# Altium schematic symbol library SamacSys.SchLib: 1311 symbols (part 13 of 14)
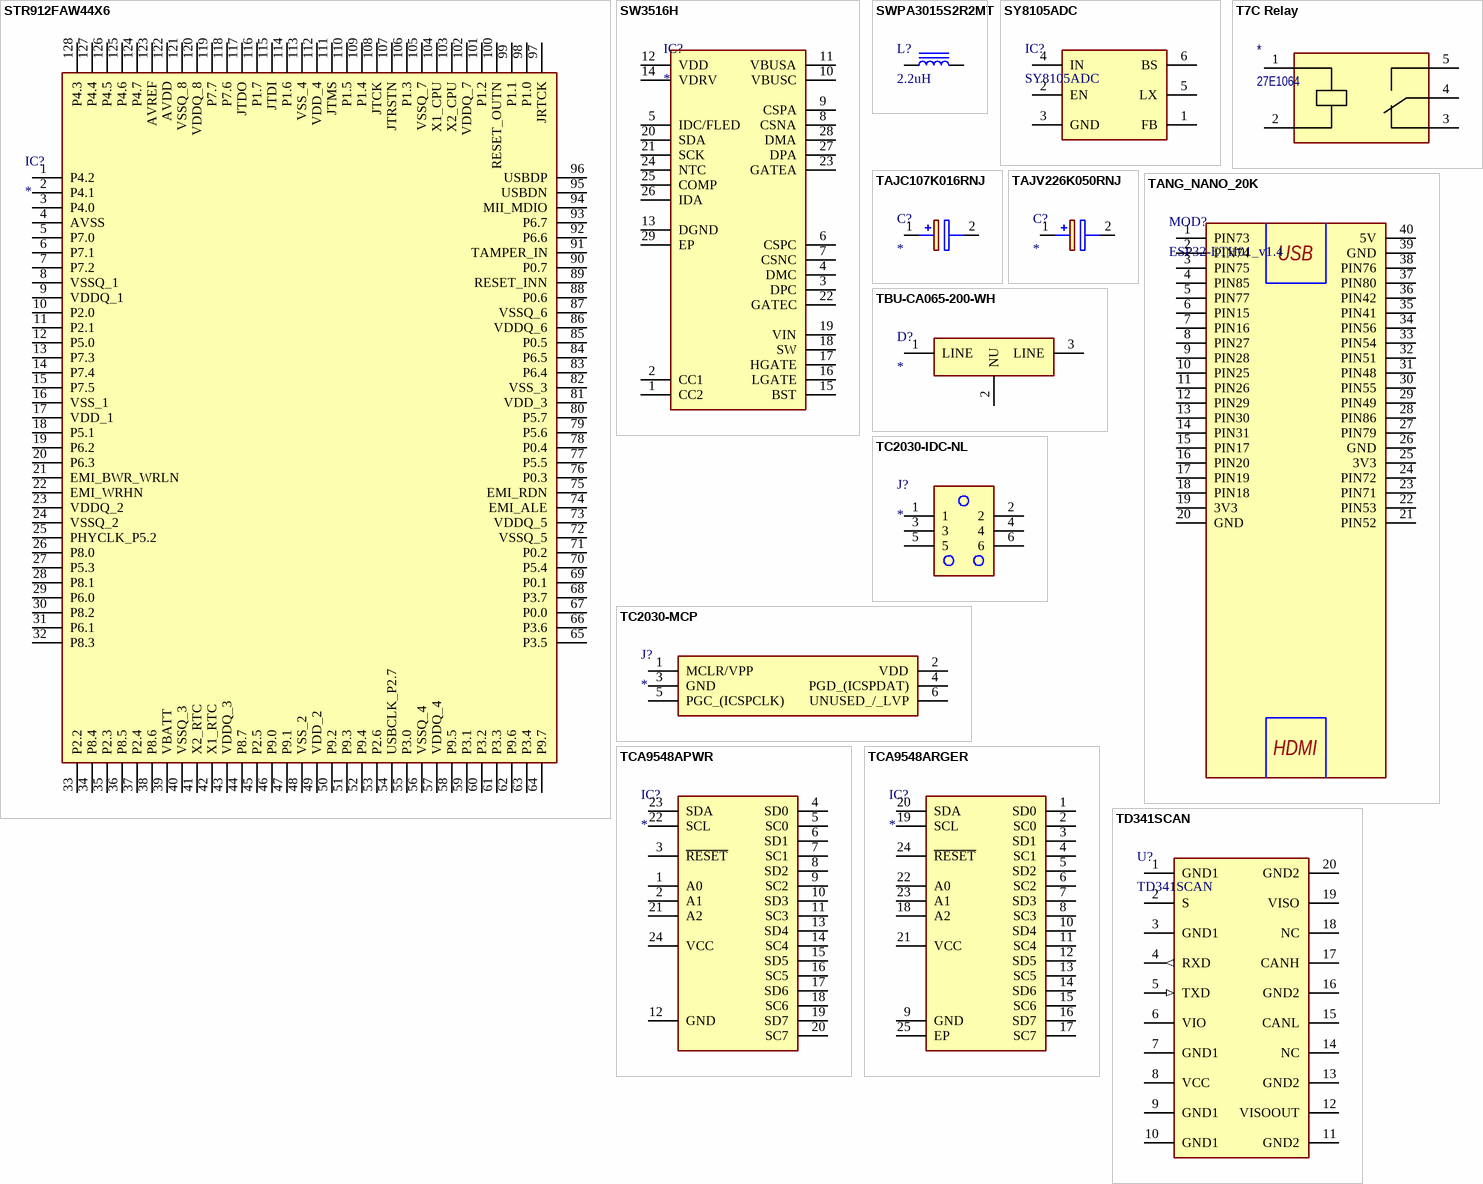
[diagram p62: symbols STR912FAW44X6 to TD341SCAN]

## TCA9548ARGER
designator IC?
Integrated Circuit; Manufacturer_Name: Texas Instruments; Manufacturer_Part_Number: TCA9548ARGER; Datasheet Link: http://www.ti.com/general/docs/lit/getliterature.tsp?genericPartNumber=TCA9548A&&fileType=pdf; Height: 1mm; Mouser Part Number: 595-TCA9548ARGER; Mouser Price/Stock: https://www.mouser.co.uk/ProductDetail/Texas-Instruments/TCA9548ARGER?qs=2I4pGxj2dxUewY0zSIpfWQ%3D%3D; Arrow Part Number: TCA9548ARGER; Arrow Price/Stock: https://www.arrow.com/en/products/tca9548arger/texas-instruments?region=nac
footprint QFN50P400X400X100-25N-D
pins: 1 SD0, 2 SC0, 3 SD1, 4 SC1, 5 SD2, 6 SC2, 7 SD3, 8 SC3, 9 GND, 10 SD4, 11 SC4, 12 SD5, 13 SC5, 14 SD6, 15 SC6, 16 SD7, 17 SC7, 18 A2, 19 SCL, 20 SDA, 21 VCC, 22 A0, 23 A1, 24 ~{RESET}, 25 EP

## TD341SCAN
designator U?
CAN transceiver, Isolated; Manufacturer: RUNIC; Part Number: RS2233YS16; Datasheet Link: https://static.chipdip.ru/lib/991/DOC019991430.pdf; Height: 1mm
footprint DFN20P1300X1030X90-20N
pins: 1 GND1, 2 S, 3 GND1, 4 RXD (out), 5 TXD (in), 6 VIO, 7 GND1, 8 VCC, 9 GND1, 10 GND1, 11 GND2, 12 VISOOUT, 13 GND2, 14 NC, 15 CANL, 16 GND2, 17 CANH, 18 NC, 19 VISO, 20 GND2

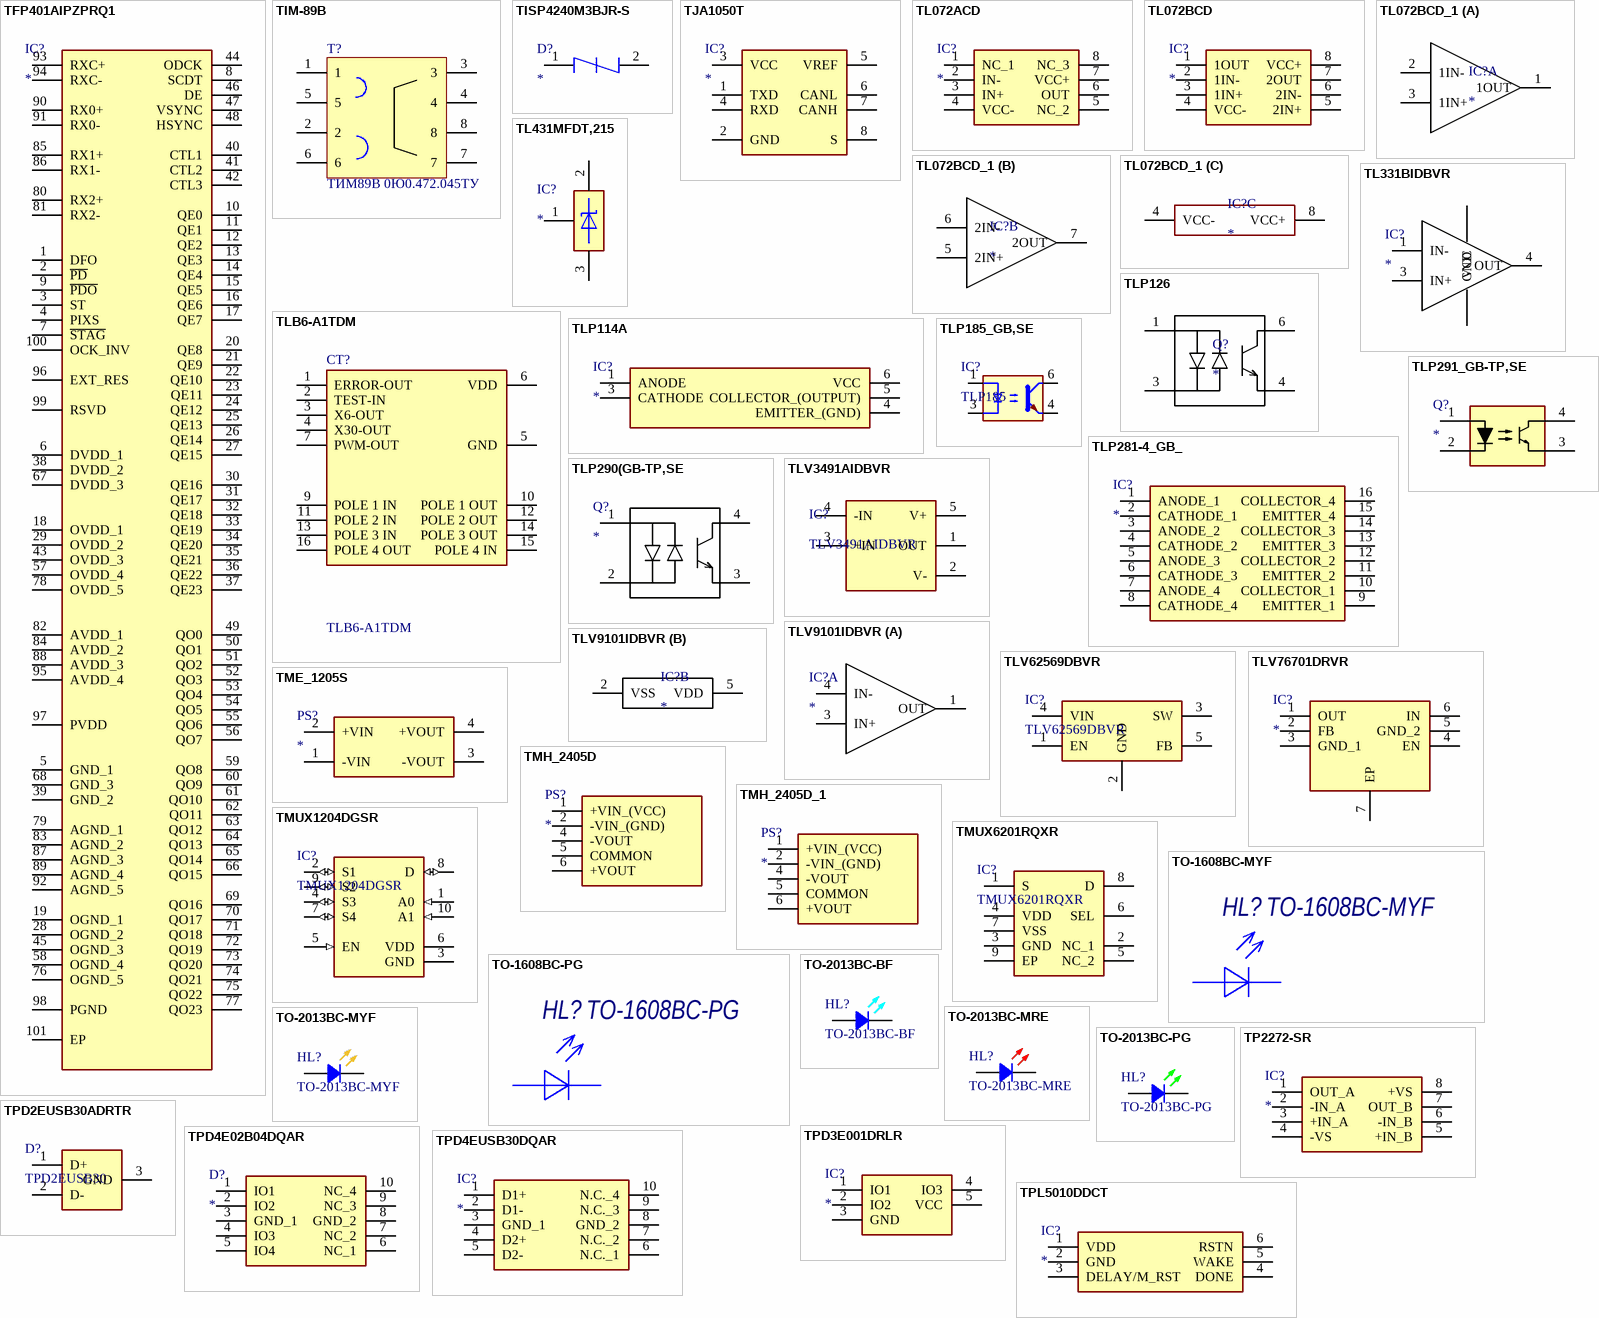
[diagram p46: symbols TFP401AIPZPRQ1 to TPL5010DDCT]

## TFP401AIPZPRQ1
designator IC?
Integrated Circuit; Manufacturer_Name: Texas Instruments; Manufacturer_Part_Number: TFP401AIPZPRQ1; Datasheet Link: http://www.ti.com/lit/ds/symlink/tfp401a-q1.pdf; Height: 1.2mm; Mouser Part Number: 595-TFP401AIPZPRQ1; Mouser Price/Stock: https://www.mouser.co.uk/ProductDetail/Texas-Instruments/TFP401AIPZPRQ1?qs=T1E5mKGHTGWTWhX4le8rpw%3D%3D; Arrow Part Number: TFP401AIPZPRQ1; Arrow Price/Stock: https://www.arrow.com/en/products/tfp401aipzprq1/texas-instruments?region=nac
footprint QFP50P1600X1600X120-101N
pins: 1 DFO, 2 ~{PD}, 3 ST, 4 PIXS, 5 GND_1, 6 DVDD_1, 7 ~{STAG}, 8 SCDT, 9 ~{PDO}, 10 QE0, 11 QE1, 12 QE2, 13 QE3, 14 QE4, 15 QE5, 16 QE6, 17 QE7, 18 OVDD_1, 19 OGND_1, 20 QE8, 21 QE9, 22 QE10, 23 QE11, 24 QE12, 25 QE13, 26 QE14, 27 QE15, 28 OGND_2, 29 OVDD_2, 30 QE16, 31 QE17, 32 QE18, 33 QE19, 34 QE20, 35 QE21, 36 QE22, 37 QE23, 38 DVDD_2, 39 GND_2, 40 CTL1, 41 CTL2, 42 CTL3, 43 OVDD_3, 44 ODCK, 45 OGND_3, 46 DE, 47 VSYNC, 48 HSYNC, 49 QO0, 50 QO1, 51 QO2, 52 QO3, 53 QO4, 54 QO5, 55 QO6, 56 QO7, 57 OVDD_4, 58 OGND_4, 59 QO8, 60 QO9, 61 QO10, 62 QO11, 63 QO12, 64 QO13, 65 QO14, 66 QO15, 67 DVDD_3, 68 GND_3, 69 QO16, 70 QO17, 71 QO18, 72 QO19, 73 QO20, 74 QO21, 75 QO22, 76 OGND_5, 77 QO23, 78 OVDD_5, 79 AGND_1, 80 RX2+, 81 RX2-, 82 AVDD_1, 83 AGND_2, 84 AVDD_2, 85 RX1+, 86 RX1-, 87 AGND_3, 88 AVDD_3, 89 AGND_4, 90 RX0+, 91 RX0-, 92 AGND_5, 93 RXC+, 94 RXC-, 95 AVDD_4, 96 EXT_RES, 97 PVDD, 98 PGND, 99 RSVD, 100 OCK_INV, 101 EP

## TIM-89B
designator T?, comment ТИМ89В 0Ю0.472.045ТУ
TRANS IMP
footprint TIM-89B
pins: 1, 2, 3, 4, 5, 6, 7, 8

## TISP4240M3BJR-S
designator D?
Thyristor; Manufacturer_Name: Bourns; Manufacturer_Part_Number: TISP4240M3BJR-S; Datasheet Link: http://html.alldatasheet.com/html-pdf/160733/BOURNS/TISP4240M3BJR-S/2984/13/TISP4240M3BJR-S.html; Height: 2.4mm; Mouser Part Number: 652-TISP4240M3BJR-S; Mouser Price/Stock: https://www.mouser.co.uk/ProductDetail/Bourns/TISP4240M3BJR-S?qs=0zoXPJiSMmNlDn5QEdP1vg%3D%3D; Arrow Part Number: TISP4240M3BJR-S; Arrow Price/Stock: https://www.arrow.com/en/products/tisp4240m3bjr-s/bourns?region=nac
footprint TISP4240M3BJRS
pins: 1, 2

## TJA1050T
designator IC?
Integrated Circuit; Manufacturer_Name: NXP; Manufacturer_Part_Number: TJA1050T; Datasheet Link: https://datasheet.datasheetarchive.com/originals/distributors/Datasheets-NXP/DSANXP010005907.pdf; Height: 1.75mm; Mouser Part Number: N/A; Mouser Price/Stock: https://www.mouser.co.uk/ProductDetail/NXP-Semiconductors/TJA1050T?qs=WhRErS6oET%252B5mtiFrt9ZMQ%3D%3D
footprint SOIC127P600X175-8N
pins: 1 TXD, 2 GND, 3 VCC, 4 RXD, 5 VREF, 6 CANL, 7 CANH, 8 S

## TL072ACD
designator IC?
Integrated Circuit; Manufacturer_Name: Texas Instruments; Manufacturer_Part_Number: TL072ACD; Datasheet Link: http://www.ti.com/lit/ds/symlink/tl071.pdf; Height: 1.75mm; Mouser Part Number: 595-TL072ACD; Mouser Price/Stock: https://www.mouser.co.uk/ProductDetail/Texas-Instruments/TL072ACD?qs=0OT4q4QBUTKvs4LhLdZF0Q%3D%3D; Arrow Part Number: TL072ACD; Arrow Price/Stock: https://www.arrow.com/en/products/tl072acd/texas-instruments
footprint SOIC127P600X175-8N
pins: 1 NC_1, 2 IN-, 3 IN+, 4 VCC-, 5 NC_2, 6 OUT, 7 VCC+, 8 NC_3

## TL072BCD
designator IC?
Integrated Circuit; Manufacturer_Name: Texas Instruments; Manufacturer_Part_Number: TL072BCD; Datasheet Link: http://www.ti.com/lit/ds/symlink/tl072b.pdf; Height: 1.75mm; Mouser Part Number: 595-TL072BCD; Mouser Price/Stock: https://www.mouser.com/Search/Refine.aspx?Keyword=595-TL072BCD; Arrow Part Number: TL072BCD; Arrow Price/Stock: https://www.arrow.com/en/products/tl072bcd/texas-instruments
footprint SOIC127P600X175-8N
pins: 1 1OUT, 2 1IN-, 3 1IN+, 4 VCC-, 5 2IN+, 6 2IN-, 7 2OUT, 8 VCC+

## TL072BCD_1
designator IC?
Integrated Circuit; Manufacturer_Name: Texas Instruments; Manufacturer_Part_Number: TL072BCD; Datasheet Link: http://www.ti.com/lit/ds/symlink/tl072b.pdf; Height: 1.75mm; Mouser Part Number: 595-TL072BCD; Mouser Price/Stock: https://www.mouser.com/Search/Refine.aspx?Keyword=595-TL072BCD; Arrow Part Number: TL072BCD; Arrow Price/Stock: https://www.arrow.com/en/products/tl072bcd/texas-instruments
footprint SOIC127P600X175-8N
part A pins: 1 1OUT, 2 1IN-, 3 1IN+
part B pins: 5 2IN+, 6 2IN-, 7 2OUT
part C pins: 4 VCC-, 8 VCC+

## TL331BIDBVR
designator IC?
Integrated Circuit; Manufacturer_Name: Texas Instruments; Manufacturer_Part_Number: TL331BIDBVR; Datasheet Link: https://www.ti.com/lit/gpn/TL331B; Height: 1.45mm; Mouser Part Number: 595-TL331BIDBVR; Mouser Price/Stock: https://www.mouser.co.uk/ProductDetail/Texas-Instruments/TL331BIDBVR?qs=hWgE7mdIu5RvWHRCZ8GTDQ%3D%3D; Arrow Part Number: TL331BIDBVR; Arrow Price/Stock: https://www.arrow.com/en/products/tl331bidbvr/texas-instruments?region=nac
footprint SOT95P280X145-5N
pins: 1 IN-, 2 GND, 3 IN+, 4 OUT, 5 VCC

## TL431MFDT,215
designator IC?
Integrated Circuit; Manufacturer_Name: Nexperia; Manufacturer_Part_Number: TL431MFDT,215; Datasheet Link: https://assets.nexperia.com/documents/data-sheet/TL431_FAM.pdf; Height: 1.1mm; Mouser Part Number: 771-TL431MFDT215; Mouser Price/Stock: https://www.mouser.co.uk/ProductDetail/Nexperia/TL431MFDT215?qs=A1cBxND5mHKvFzVl3lBdcQ%3D%3D; Arrow Part Number: TL431MFDT,215; Arrow Price/Stock: https://www.arrow.com/en/products/tl431mfdt215/nexperia?utm_currency=USD&region=nac
footprint SOT95P230X110-3N
pins: 1 REF, 2 K, 3 A

## TLB6-A1TDM
designator CT?
footprint TLB6-A1TDM
pins: 1 ERROR-OUT, 2 TEST-IN, 3 X6-OUT, 4 X30-OUT, 5 GND (power), 6 VDD, 7 PWM-OUT, 9 POLE 1 IN, 10 POLE 1 OUT, 11 POLE 2 IN, 12 POLE 2 OUT, 13 POLE 3 IN, 14 POLE 3 OUT, 15 POLE 4 IN, 16 POLE 4 OUT

## TLP114A
designator IC?
Integrated Circuit; Manufacturer_Name: Toshiba; Manufacturer_Part_Number: TLP114A; Datasheet Link: https://toshiba.semicon-storage.com/ap-en/semiconductor/product/isolators-solid-state-relays/detail.TLP114A(IGM).html; Height: 2.6mm
footprint TLP114A
pins: 1 ANODE, 3 CATHODE, 4 EMITTER_(GND), 5 COLLECTOR_(OUTPUT), 6 VCC

## TLP126
designator Q?
Phototransistor; Manufacturer_Name: Toshiba; Manufacturer_Part_Number: TLP126(TPL,F); Datasheet Link: http://toshiba.semicon-storage.com/info/docget.jsp?did=16738&prodName=TLP126; Height: 2mm; Arrow Part Number: TLP126(TPL,F); Arrow Price/Stock: https://www.arrow.com/en/products/tlp126-tplf/toshiba
footprint TLP126TPLF
pins: 1 ANODE,_CATHODE, 3 CATHODE,_ANODE, 4 EMITTER, 6 COLLECTOR

## TLP185_GB,SE
designator IC?, comment TLP185
OPTOISOLATOR 3.75KV 4CH TRANS; Manufacturer_Name: Toshiba; Manufacturer_Part_Number: TLP185(GB,SE; Datasheet Link: https://www.arrow.com/en/products/tlp185-gbse/toshiba; Height: 2.3mm; Mouser Part Number: 757-TLP185GBSE; Mouser Price/Stock: https://www.mouser.co.uk/ProductDetail/Toshiba/TLP185GBSE?qs=d%252BuLRCbWxrqUG9PqN7Wkhg%3D%3D; Arrow Part Number: TLP185(GB,SE; Arrow Price/Stock: https://www.arrow.com/en/products/tlp185-gbse/toshiba?region=nac
footprint SOIC127P700X230-6N_4
pins: 1, 3, 4, 6

## TLP281-4_GB_
designator IC?
OPTOISOLATOR 3.75KV 4CH TRANS; Manufacturer_Name: Toshiba; Manufacturer_Part_Number: TLP281-4(GB); Datasheet Link: https://media.digikey.com/pdf/Data%20Sheets/Toshiba%20PDFs/TLP281.pdf; Height: 2.1mm
footprint SOIC127P700X210-16N (Footprint not found)
pins: 1 ANODE_1, 2 CATHODE_1, 3 ANODE_2, 4 CATHODE_2, 5 ANODE_3, 6 CATHODE_3, 7 ANODE_4, 8 CATHODE_4, 9 EMITTER_1, 10 COLLECTOR_1, 11 EMITTER_2, 12 COLLECTOR_2, 13 EMITTER_3, 14 COLLECTOR_3, 15 EMITTER_4, 16 COLLECTOR_4

## TLP290(GB-TP,SE
designator Q?
Phototransistor; Manufacturer: Toshiba; Part Number: TLP290(GB,SE(T; Datasheet Link: https://toshiba.semicon-storage.com/info/docget.jsp?did=14154&prodName=TLP290(SE; Height: 2.3mm
footprint SOIC127P700X230-4N
pins: 1 ANODE,_CATHODE, 2 CATHODE,_ANODE, 3 EMITTER, 4 COLLECTOR

## TLP291_GB-TP,SE
designator Q?
Phototransistor; Manufacturer_Name: Toshiba; Manufacturer_Part_Number: TLP291(GB-TP,SE; Datasheet Link: http://toshiba.semicon-storage.com/info/docget.jsp?did=14152&prodName=TLP291(SE; Height: 2.3mm; Mouser Part Number: 757-TLP291GB-TPSE; Mouser Price/Stock: https://www.mouser.co.uk/ProductDetail/Toshiba/TLP291GB-TPSE?qs=ugDoPmQdBbvKqPS4293vQA%3D%3D; Arrow Part Number: TLP291(GB-TP,SE; Arrow Price/Stock: null?region=nac
footprint SOIC127P700X230-4N
pins: 1 ANODE, 2 CATHODE, 3 EMITTER, 4 COLLECTOR

## TLV3491AIDBVR
designator IC?
IC COMPARATOR 1 GEN PUR SOT23-5; Manufacturer_Name: Texas Instruments; Datasheet Link: http://www.ti.com/lit/gpn/tlv3491; Height: 1.45mm; Manufacturer_Part_Number: TLV3491AIDBVR; Mouser Part Number: 595-TLV3491AIDBVR; Mouser Price/Stock: https://www.mouser.co.uk/ProductDetail/Texas-Instruments/TLV3491AIDBVR?qs=m96fseALk3U4uJmHH1pO1w%3D%3D; Arrow Part Number: TLV3491AIDBVR; Arrow Price/Stock: https://www.arrow.com/en/products/tlv3491aidbvr/texas-instruments
footprint SOT95P280X145-5N
pins: 1 OUT, 2 V-, 3 +IN, 4 -IN, 5 V+

## TLV9101IDBVR
designator IC?
Integrated Circuit; Manufacturer_Name: Texas Instruments; Manufacturer_Part_Number: TLV9101IDBVR; Datasheet Link: http://www.ti.com/lit/ds/symlink/tlv9101.pdf; Height: 1.45mm; Mouser Part Number: 595-TLV9101IDBVR; Mouser Price/Stock: https://www.mouser.co.uk/ProductDetail/Texas-Instruments/TLV9101IDBVR?qs=P1JMDcb91o6ZLUyc%2FHtrGA%3D%3D; Arrow Part Number: TLV9101IDBVR; Arrow Price/Stock: https://www.arrow.com/en/products/tlv9101idbvr/texas-instruments?region=nac
footprint SOT95P280X145-5N
part A pins: 1 OUT, 3 IN+, 4 IN-
part B pins: 2 VSS, 5 VDD

## TLV62569DBVR
designator IC?
IC REG BUCK ADJ 2A SOT23-5; Manufacturer_Name: Texas Instruments; Datasheet Link: http://www.ti.com/lit/gpn/tlv62569; Height: 1.45mm; Manufacturer_Part_Number: TLV62569DBVR; Mouser Part Number: 595-TLV62569DBVR; Mouser Price/Stock: https://www.mouser.co.uk/ProductDetail/Texas-Instruments/TLV62569DBVR?qs=0C8XhJW8e4oaylc%252BzBrCmA%3D%3D; Arrow Part Number: TLV62569DBVR; Arrow Price/Stock: https://www.arrow.com/en/products/tlv62569dbvr/texas-instruments?region=nac
footprint SOT95P280X145-5N
pins: 1 EN, 2 GND, 3 SW, 4 VIN, 5 FB

## TLV76701DRVR
designator IC?
IC REG LINEAR POS ADJ 1A 6WSON; Manufacturer_Name: Texas Instruments; Manufacturer_Part_Number: TLV76701DRVR; Datasheet Link: http://www.ti.com/lit/gpn/TLV767; Height: 0.8mm; Mouser Part Number: 595-TLV76701DRVR; Mouser Price/Stock: https://www.mouser.co.uk/ProductDetail/Texas-Instruments/TLV76701DRVR?qs=l7cgNqFNU1h4nW14BHdGSQ%3D%3D; Arrow Part Number: TLV76701DRVR; Arrow Price/Stock: https://www.arrow.com/en/products/tlv76701drvr/texas-instruments?region=nac
footprint SON65P200X200X80-7N
pins: 1 OUT, 2 FB, 3 GND_1, 4 EN, 5 GND_2, 6 IN, 7 EP

## TME_1205S
designator PS?
Power Supply; Manufacturer_Name: Traco Power; Manufacturer_Part_Number: TME 1205S; Datasheet Link: https://tracopower.com/tme-datasheet/; Height: 10.45mm; Mouser Part Number: 495-TME-1205S; Mouser Price/Stock: https://www.mouser.co.uk/ProductDetail/TRACO-Power/TME-1205S?qs=ckJk83FOD0UrUBNeYoooNA%3D%3D; Arrow Part Number: TME 1205S; Arrow Price/Stock: https://www.arrow.com/en/products/tme1205s/traco-electronic-ag?region=europe
footprint TME0512S
pins: 1 -VIN, 2 +VIN, 3 -VOUT, 4 +VOUT

## TMH_2405D
designator PS?
Power Supply; Manufacturer_Name: Traco Power; Manufacturer_Part_Number: TMH 2405D; Datasheet Link: https://tracopower.com/tmh-datasheet/; Height: 10.45mm; Mouser Part Number: 495-TMH-2405D; Mouser Price/Stock: https://www.mouser.co.uk/ProductDetail/TRACO-Power/TMH-2405D?qs=ckJk83FOD0W%2FmAmjgWBCtw%3D%3D
footprint TMH2405D
pins: 1 +VIN_(VCC), 2 -VIN_(GND), 4 -VOUT, 5 COMMON, 6 +VOUT

## TMH_2405D_1
designator PS?
Power Supply; Manufacturer_Name: Traco Power; Manufacturer_Part_Number: TMH 2405D; Datasheet Link: https://tracopower.com/tmh-datasheet/; Height: 10.45mm; Mouser Part Number: 495-TMH-2405D; Mouser Price/Stock: https://www.mouser.co.uk/ProductDetail/TRACO-Power/TMH-2405D?qs=ckJk83FOD0W%2FmAmjgWBCtw%3D%3D
footprint TMH2405D
pins: 1 +VIN_(VCC), 2 -VIN_(GND), 4 -VOUT, 5 COMMON, 6 +VOUT

## TMUX1204DGSR
designator IC?
IC SWITCH SP4T X 1 5OHM 10VSSOP; Manufacturer_Name: Texas Instruments; Datasheet Link: http://www.ti.com/lit/gpn/TMUX1204; Height: 1.1mm; Manufacturer_Part_Number: TMUX1204DGSR; Mouser Part Number: 595-TMUX1204DGSR; Mouser Price/Stock: https://www.mouser.co.uk/ProductDetail/Texas-Instruments/TMUX1204DGSR?qs=EBDBlbfErPw42Q0DdvAwUg%3D%3D; Arrow Part Number: TMUX1204DGSR; Arrow Price/Stock: https://www.arrow.com/en/products/tmux1204dgsr/texas-instruments.html?utm_currency=USD&region=europe
footprint SOP50P490X110-10N
pins: 1 A0 (in), 2 S1 (io), 3 GND (power), 4 S3 (io), 5 EN (in), 6 VDD (power), 7 S4 (io), 8 D (io), 9 S2 (io), 10 A1 (in)

## TMUX6201RQXR
designator IC?
IC SWITCH 36-V, 1:1 (SPST); Manufacturer_Name: Texas Instruments; Datasheet Link: https://www.ti.com/lit/ds/symlink/tmux6201.pdf?ts=1753800963951&ref_url=https%253A%252F%252Fwww.mouser.com%252F; Height: 0.8mm; Manufacturer_Part_Number: TMUX6201RQXR; Mouser Part Number: 595-TMUX6201RQXR; Mouser Price/Stock: https://www.mouser.co.uk/ProductDetail/Texas-Instruments/TMUX6201RQXR?qs=3Rah4i%252BhyCH26IEGkFErXA%3D%3D; Arrow Part Number: TMUX6201RQXR; Arrow Price/Stock: https://www.arrow.com/en/products/tmux6201rqxr/texas-instruments?utm_currency=USD&region=nac
footprint SON50P300X200X80-9N-D
pins: 1 S, 2 NC_1, 3 GND, 4 VDD, 5 NC_2, 6 SEL, 7 VSS, 8 D, 9 EP

## TO-1608BC-MYF
designator HL?
LED YELLOW; Type: Индикатор единичный; Published: 03.12.2013; Publisher: Артем Голубев
footprint TO-1608BC
pins: 1 К "Катод", 2 А "Анод"
1 alternate drawing of the same symbol

## TO-1608BC-PG
designator HL?
LED GREEN; Type: Индикатор единичный; Published: 03.12.2013; Publisher: Артем Голубев
footprint TO-1608BC
pins: 1 К "Катод", 2 А "Анод"
1 alternate drawing of the same symbol

## TO-2013BC-BF
designator HL?
LED, 0805, Blue; Manufacturer_Name: OASISTEK; Manufacturer_Part_Number: KP-2012QBC-D; Datasheet Link: https://static.chipdip.ru/lib/736/DOC002736050.pdf; Height: 1.1mm; Mouser Part Number: N/A; Mouser Price/Stock: https://www.mouser.co.uk/ProductDetail/Kingbright/KP-2012MGC?qs=2JU0tDl2GZ0DzyNwePJZSw%3D%3D; Arrow Part Number: KP-2012QBC-D; Arrow Price/Stock: https://www.arrow.com/en/products/kp-2012mgc/kingbright
footprint LEDC2012X110N_blue
pins: 1 A, 2 C

## TO-2013BC-MRE
designator HL?
LED, 0805, Red; Manufacturer_Name: OASISTEK; Datasheet Link: https://static.chipdip.ru/lib/736/DOC002736052.pdf; Height: 1.1mm; Manufacturer_Part_Number: TO-2013BC-MRE; Mouser Part Number: N/A; Mouser Price/Stock: https://www.mouser.co.uk/ProductDetail/Kingbright/KP-2012MGC?qs=2JU0tDl2GZ0DzyNwePJZSw%3D%3D; Arrow Part Number: KP-2012ID; Arrow Price/Stock: https://www.arrow.com/en/products/kp-2012mgc/kingbright
footprint LEDC2012X110N_RED
pins: 1 A, 2 C

## TO-2013BC-MYF
designator HL?
LED, 0805, Yellow; Manufacturer_Name: OASISTEK; Datasheet Link: https://static.chipdip.ru/lib/736/DOC002736052.pdf; Height: 1.1mm; Manufacturer_Part_Number: TO-2013BC-MYF; Mouser Part Number: N/A; Mouser Price/Stock: https://www.mouser.co.uk/ProductDetail/Kingbright/KP-2012MGC?qs=2JU0tDl2GZ0DzyNwePJZSw%3D%3D; Arrow Part Number: TO-2013BC-MYF; Arrow Price/Stock: https://www.arrow.com/en/products/kp-2012mgc/kingbright
footprint LEDC2012X110N_YELLOW (Footprint not found)
pins: 1 A, 2 C

## TO-2013BC-PG
designator HL?
LED, 0805, Green; Manufacturer_Name: OASISTEK; Datasheet Link: https://static.chipdip.ru/lib/736/DOC002736056.pdf; Height: 1.1mm; Manufacturer_Part_Number: TO-2013BC-PG; Mouser Part Number: N/A; Mouser Price/Stock: https://www.mouser.co.uk/ProductDetail/Kingbright/KP-2012MGC?qs=2JU0tDl2GZ0DzyNwePJZSw%3D%3D; Arrow Part Number: KP-2012MGC; Arrow Price/Stock: https://www.arrow.com/en/products/kp-2012mgc/kingbright
footprint LEDC2012X110N
pins: 1 A, 2 C

## TP2272-SR
designator IC?
Integrated Circuit; Manufacturer_Name: 3Peak Incorporated; Manufacturer_Part_Number: TP2272-SR; Height: 1.8mm
footprint SOIC127P605X180-8N
pins: 1 OUT_A, 2 -IN_A, 3 +IN_A, 4 -VS, 5 +IN_B, 6 -IN_B, 7 OUT_B, 8 +VS

## TPD2EUSB30ADRTR
designator D?, comment TPD2EUSB30
TVS DIODE 3.6VWM 8VC SOT3; Manufacturer_Name: Texas Instruments; Manufacturer_Part_Number: TPD2EUSB30ADRTR; Datasheet Link: http://www.ti.com/lit/gpn/tpd2eusb30a; Mouser Part Number: 595-TPD2EUSB30ADRTR; Mouser Price/Stock: https://www.mouser.co.uk/ProductDetail/Texas-Instruments/TPD2EUSB30ADRTR?qs=O1HRStiETCgOfMa6oTfOlg%3D%3D; Arrow Part Number: TPD2EUSB30ADRTR; Arrow Price/Stock: https://www.arrow.com/en/products/tpd2eusb30adrtr/texas-instruments?utm_currency=USD&region=nac
footprint SOT35P100X50-3N
pins: 1 D+, 2 D-, 3 GND

## TPD3E001DRLR
designator IC?
Integrated Circuit; Manufacturer_Name: Texas Instruments; Manufacturer_Part_Number: TPD3E001DRLR; Datasheet Link: http://www.ti.com/lit/ds/symlink/tpd3e001.pdf; Height: 0.6mm; Mouser Part Number: 595-TPD3E001DRLR; Mouser Price/Stock: https://www.mouser.co.uk/ProductDetail/Texas-Instruments/TPD3E001DRLR?qs=t6sYTo5dwUz70OwW3s2cQw%3D%3D; Arrow Part Number: TPD3E001DRLR; Arrow Price/Stock: https://www.arrow.com/en/products/tpd3e001drlr/texas-instruments?region=nac
footprint SOTFL50P160X60-5N
pins: 1 IO1, 2 IO2, 3 GND, 4 IO3, 5 VCC

## TPD4E02B04DQAR
designator D?
Diode; Manufacturer_Name: Texas Instruments; Manufacturer_Part_Number: TPD4E02B04DQAR; Datasheet Link: http://www.ti.com/lit/gpn/tpd4e02b04; Mouser Part Number: 595-TPD4E02B04DQAR; Mouser Price/Stock: https://www.mouser.co.uk/ProductDetail/Texas-Instruments/TPD4E02B04DQAR?qs=8%2FmU9qzJpL%2FFVYtHO1iV9g%3D%3D; Arrow Part Number: TPD4E02B04DQAR; Arrow Price/Stock: https://www.arrow.com/en/products/tpd4e02b04dqar/texas-instruments.html?utm_currency=USD&region=asia
footprint DQA(R-PUSON-N10)
pins: 1 IO1, 2 IO2, 3 GND_1, 4 IO3, 5 IO4, 6 NC_1, 7 NC_2, 8 GND_2, 9 NC_3, 10 NC_4

## TPD4EUSB30DQAR
designator IC?
Integrated Circuit; Manufacturer_Name: Texas Instruments; Manufacturer_Part_Number: TPD4EUSB30DQAR; Datasheet Link: http://www.ti.com/lit/gpn/tpd4eusb30; Mouser Part Number: 595-TPD4EUSB30DQAR; Mouser Price/Stock: https://www.mouser.co.uk/ProductDetail/Texas-Instruments/TPD4EUSB30DQAR?qs=Ze4%2FuFuz19JpY4uqYOLMbQ%3D%3D; Arrow Part Number: TPD4EUSB30DQAR; Arrow Price/Stock: https://www.arrow.com/en/products/tpd4eusb30dqar/texas-instruments?region=nac
footprint DQA(R-PUSON-N10)
pins: 1 D1+, 2 D1-, 3 GND_1, 4 D2+, 5 D2-, 6 N.C._1, 7 N.C._2, 8 GND_2, 9 N.C._3, 10 N.C._4

## TPL5010DDCT
designator IC?
Integrated Circuit; Manufacturer_Name: Texas Instruments; Manufacturer_Part_Number: TPL5010DDCT; Datasheet Link: http://www.ti.com/lit/ds/symlink/tpl5010.pdf; Height: 1.1mm; Mouser Part Number: 595-TPL5010DDCT; Mouser Price/Stock: https://www.mouser.co.uk/ProductDetail/Texas-Instruments/TPL5010DDCT?qs=beZBGHSk9c06Mf4cbaYiUA%3D%3D; Arrow Part Number: TPL5010DDCT; Arrow Price/Stock: https://www.arrow.com/en/products/tpl5010ddct/texas-instruments?region=nac
footprint SOT95P280X110-6N
pins: 1 VDD, 2 GND, 3 DELAY/M_RST, 4 DONE, 5 WAKE, 6 RSTN

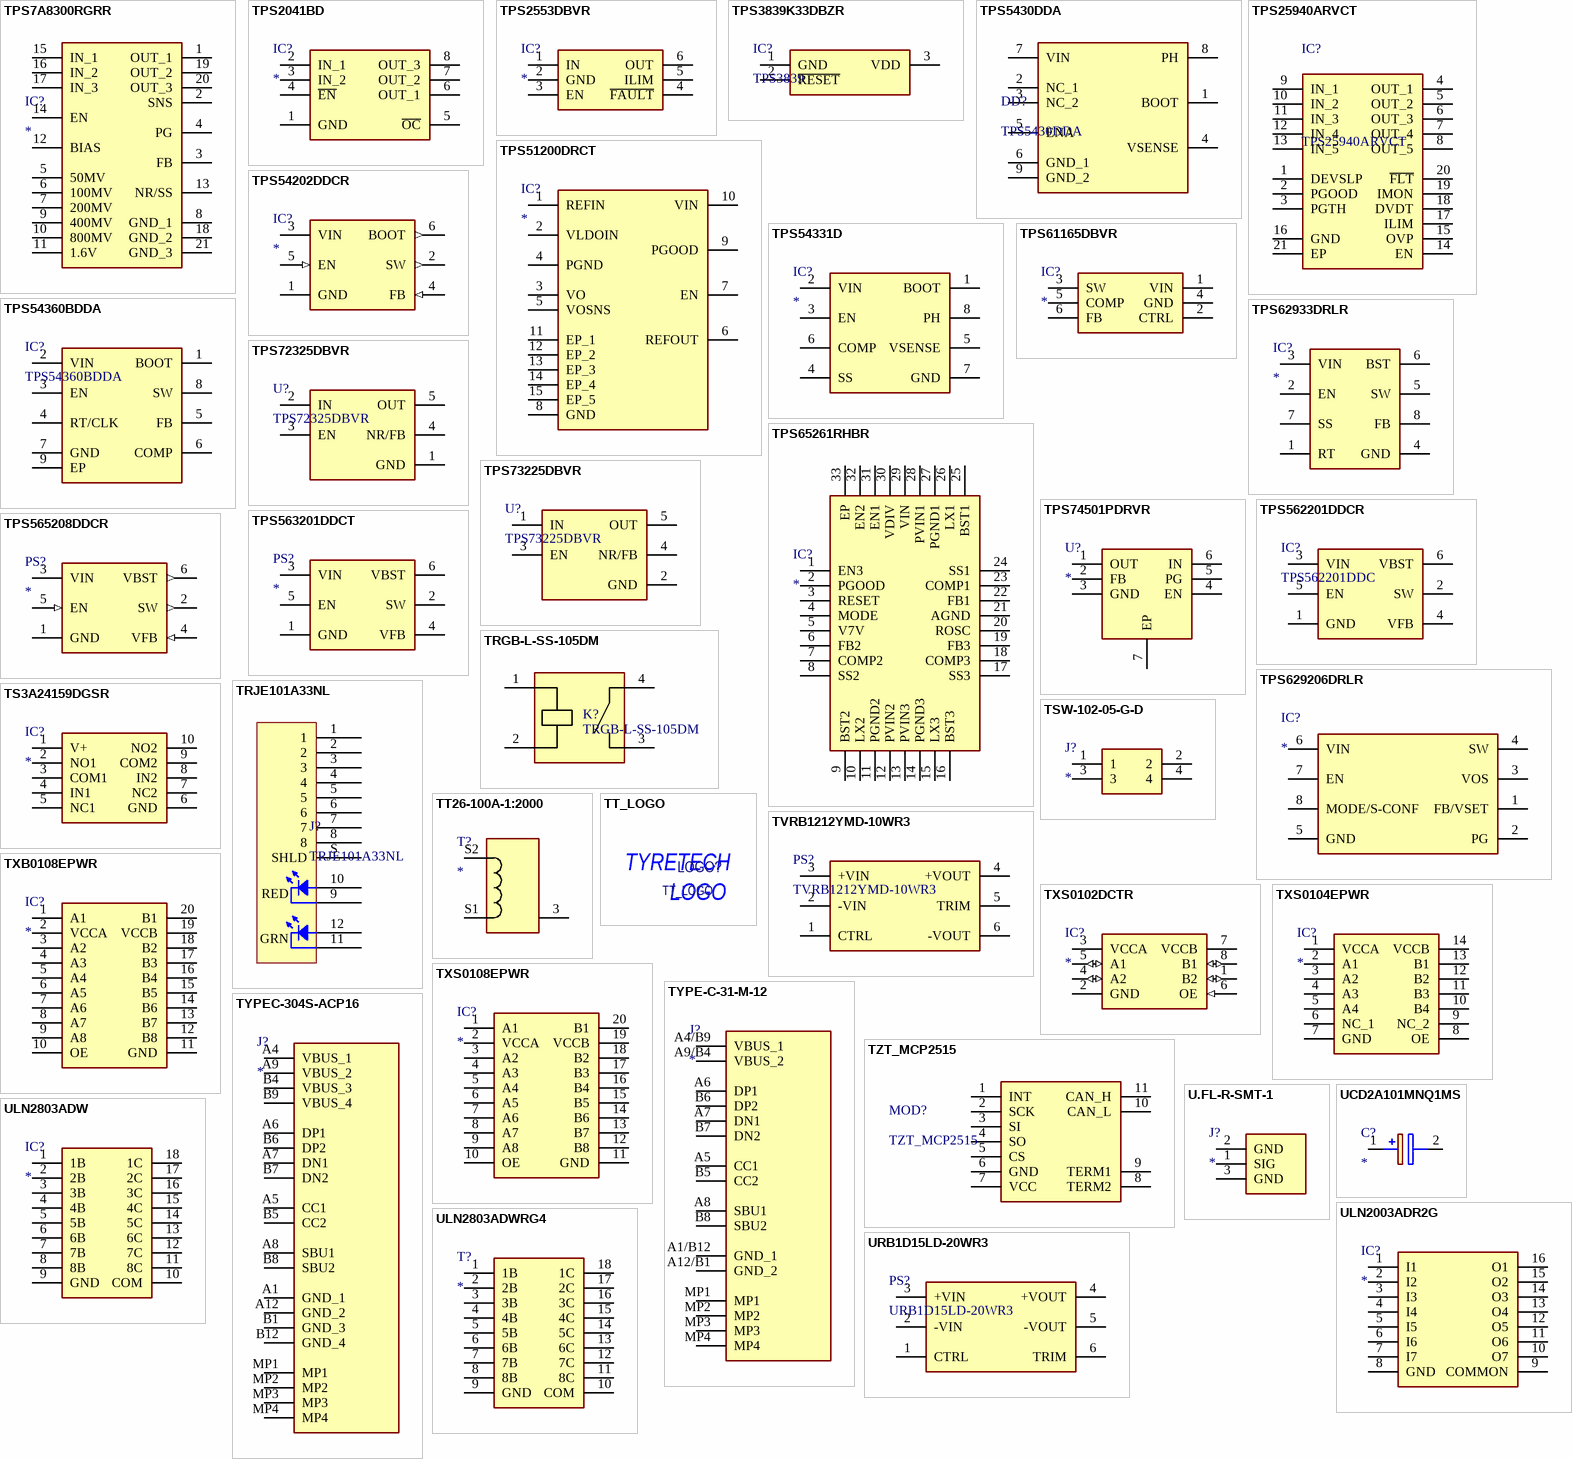
[diagram p47: symbols TPS7A8300RGRR to URB1D15LD-20WR3]

## TPS7A8300RGRR
designator IC?
IC REG LINEAR POS ADJ 2A 20-VQFN; Manufacturer_Name: Texas Instruments; Manufacturer_Part_Number: TPS7A8300RGRR; Datasheet Link: http://www.ti.com/lit/gpn/tps7a8300; Height: 1mm; Mouser Part Number: 595-TPS7A8300RGRR; Mouser Price/Stock: https://www.mouser.co.uk/ProductDetail/Texas-Instruments/TPS7A8300RGRR?qs=%2Fd%252BFzHvH4c07QmlGu3tHRQ%3D%3D; Arrow Part Number: TPS7A8300RGRR; Arrow Price/Stock: https://www.arrow.com/en/products/tps7a8300rgrr/texas-instruments?utm_currency=USD&region=nac
footprint QFN50P350X350X100-21N-D
pins: 1 OUT_1, 2 SNS, 3 FB, 4 PG, 5 50MV, 6 100MV, 7 200MV, 8 GND_1, 9 400MV, 10 800MV, 11 1.6V, 12 BIAS, 13 NR/SS, 14 EN, 15 IN_1, 16 IN_2, 17 IN_3, 18 GND_2, 19 OUT_2, 20 OUT_3, 21 GND_3

## TPS2041BD
designator IC?
IC PWR SWITCH N-CHAN 1:1 8SOIC; Manufacturer_Name: Texas Instruments; Manufacturer_Part_Number: TPS2041BD; Datasheet Link: http://www.ti.com/lit/gpn/tps2041b; Height: 1.75mm; Mouser Part Number: 595-TPS2041BD; Mouser Price/Stock: https://www.mouser.co.uk/ProductDetail/Texas-Instruments/TPS2041BD?qs=ojKcPFmCWSXYqmPq5V0woQ%3D%3D; Arrow Part Number: TPS2041BD; Arrow Price/Stock: https://www.arrow.com/en/products/tps2041bd/texas-instruments?region=nac
footprint SOIC127P600X175-8N
pins: 1 GND, 2 IN_1, 3 IN_2, 4 ~{EN}, 5 ~{OC}, 6 OUT_1, 7 OUT_2, 8 OUT_3

## TPS2553DBVR
designator IC?
IC PWR SWITCH N-CHAN 1.5A 1:1 SOT23-6; Manufacturer_Name: Texas Instruments; Manufacturer_Part_Number: TPS2553DBVR; Datasheet Link: http://www.ti.com/lit/gpn/tps2553; Height: 1.45mm; Mouser Part Number: 595-TPS2553DBVR; Mouser Price/Stock: https://www.mouser.co.uk/ProductDetail/Texas-Instruments/TPS2553DBVR?qs=QZKT0uTfj2LY8QSfRgrLvA%3D%3D; Arrow Part Number: TPS2553DBVR; Arrow Price/Stock: https://www.arrow.com/en/products/tps2553dbvr/texas-instruments?region=nac
footprint SOT95P280X145-6N
pins: 1 IN, 2 GND, 3 EN, 4 ~{FAULT}, 5 ILIM, 6 OUT

## TPS3839K33DBZR
designator IC?, comment TPS3839
IC SUPERVISOR RESET 200msSOT-23-3; Manufacturer_Name: Texas Instruments; Manufacturer_Part_Number: TPS3839K33DBZR; Datasheet Link: https://www.ti.com/lit/gpn/TPS3839; Height: 1.12mm; Mouser Part Number: 595-TPS3839K33DBZR; Mouser Price/Stock: https://www.mouser.co.uk/ProductDetail/Texas-Instruments/TPS3839K33DBZR?qs=4whTb%2F0XQMjHAv1zNV0Odw%3D%3D; Arrow Part Number: TPS3839K33DBZR; Arrow Price/Stock: https://www.arrow.com/en/products/tps3839k33dbzr/texas-instruments?region=nac
footprint SOT95P237X112-3N
pins: 1 GND, 2 ~{RESET}, 3 VDD

## TPS5430DDA
designator DD?
IC DCDC BUCK 5,5-36Vin 3A; Manufacturer_Name: Texas Instruments; Datasheet Link: https://datasheet.datasheetarchive.com/originals/distributors/Datasheets-SFU2/DSASFU100034215.pdf; Height: 1.7mm; Manufacturer_Part_Number: TPS5430DDA; Mouser Part Number: 595-TPS5430DDA; Mouser Price/Stock: https://www.mouser.co.uk/ProductDetail/Texas-Instruments/TPS5430DDA?qs=zwk82MlA57bk5fOPRvfoCA%3D%3D; Arrow Part Number: TPS5430DDA; Arrow Price/Stock: https://www.arrow.com/en/products/tps5430dda/texas-instruments?region=nac
footprint SOIC127P600X170-9N
pins: 1 BOOT, 2 NC_1, 3 NC_2, 4 VSENSE, 5 ENA, 6 GND_1, 7 VIN, 8 PH, 9 GND_2

## TPS25940ARVCT
designator IC?
18V, 5A, 42m eFuse With Integrated Reverse Current Protection and DevSleep Support; Manufacturer_Name: Texas Instruments; Geometry.Height: 0.8mm; Manufacturer_Part_Number: TPS25940ARVCT; Mouser Part Number: 595-TPS25940ARVCT; Mouser Price/Stock: https://www.mouser.co.uk/ProductDetail/Texas-Instruments/TPS25940ARVCT?qs=1MXlzafEN39WRT24Wg%2FJYg%3D%3D; Arrow Part Number: TPS25940ARVCT; Arrow Price/Stock: https://www.arrow.com/en/products/tps25940arvct/texas-instruments?region=europe; Datasheet Link: http://www.ti.com/lit/gpn/tps25940
footprint QFN50P300X400X80-21N
pins: 1 DEVSLP, 2 PGOOD, 3 PGTH, 4 OUT_1, 5 OUT_2, 6 OUT_3, 7 OUT_4, 8 OUT_5, 9 IN_1, 10 IN_2, 11 IN_3, 12 IN_4, 13 IN_5, 14 EN, 15 OVP, 16 GND, 17 ILIM, 18 DVDT, 19 IMON, 20 ~{FLT}, 21 EP

## TPS51200DRCT
designator IC?
IC SINK/SOURCE DDR TERMINATION REGULATOR; Manufacturer_Name: Texas Instruments; Manufacturer_Part_Number: TPS51200DRCT; Datasheet Link: http://www.ti.com/general/docs/suppproductinfo.tsp?distId=10&gotoUrl=http%3A%2F%2Fwww.ti.com%2Flit%2Fgpn%2Ftps51200; Height: 1mm; Mouser Part Number: 595-TPS51200DRCT; Mouser Price/Stock: https://www.mouser.co.uk/ProductDetail/Texas-Instruments/TPS51200DRCT?qs=ZEMkBHnybREnw4ZM0%2Faz%252BQ%3D%3D; Arrow Part Number: TPS51200DRCT; Arrow Price/Stock: https://www.arrow.com/en/products/tps51200drct/texas-instruments.html?utm_currency=USD&region=asia
footprint TPS259241DRCR
pins: 1 REFIN, 2 VLDOIN, 3 VO, 4 PGND, 5 VOSNS, 6 REFOUT, 7 EN, 8 GND, 9 PGOOD, 10 VIN, 11 EP_1, 12 EP_2, 13 EP_3, 14 EP_4, 15 EP_5

## TPS54202DDCR
designator IC?
IC REG DCDC BUCK ADJ VIN 4.5-28V 2A SOT23; Manufacturer_Name: Texas Instruments; Manufacturer_Part_Number: TPS54202DDCR; Datasheet Link: http://www.ti.com/lit/gpn/tps54202; Height: 1.1mm; Arrow Part Number: TPS54202DDCR; Arrow Price/Stock: https://www.arrow.com/en/products/tps54202ddcr/texas-instruments?utm_currency=USD&region=europe
footprint SOT95P280X110-6N
pins: 1 GND (power), 2 SW (out), 3 VIN (power), 4 FB (in), 5 EN (in), 6 BOOT (out)

## TPS54331D
designator IC?
Integrated Circuit; Manufacturer_Name: Texas Instruments; Manufacturer_Part_Number: TPS54331D; Datasheet Link: http://www.ti.com/lit/gpn/tps54331; Height: 1.75mm; Mouser Part Number: 595-TPS54331D; Mouser Price/Stock: https://www.mouser.co.uk/ProductDetail/Texas-Instruments/TPS54331D?qs=QyYHynRG50pEbpiybdzwkw%3D%3D; Arrow Part Number: TPS54331D; Arrow Price/Stock: https://www.arrow.com/en/products/tps54331d/texas-instruments?region=nac
footprint SOIC127P600X175-8N
pins: 1 BOOT, 2 VIN, 3 EN, 4 SS, 5 VSENSE, 6 COMP, 7 GND, 8 PH

## TPS54360BDDA
designator IC?
IC REG BUCK ADJ 3.5A 8SOPWR; Manufacturer_Name: Texas Instruments; Datasheet Link: https://www.ti.com/lit/gpn/tps54360b; Height: 1.7mm; Manufacturer_Part_Number: TPS54360BDDA; Mouser Part Number: 595-TPS54360BDDA; Mouser Price/Stock: https://www.mouser.co.uk/ProductDetail/Texas-Instruments/TPS54360BDDA?qs=l7cgNqFNU1hVzPeNs26qdQ%3D%3D; Arrow Part Number: TPS54360BDDA; Arrow Price/Stock: https://www.arrow.com/en/products/tps54360bdda/texas-instruments.html?utm_currency=USD&region=nac
footprint SOIC127P600X170-9N
pins: 1 BOOT, 2 VIN, 3 EN, 4 RT/CLK, 5 FB, 6 COMP, 7 GND, 8 SW, 9 EP

## TPS61165DBVR
designator IC?
Integrated Circuit; Manufacturer_Name: Texas Instruments; Manufacturer_Part_Number: TPS61165DBVR; Datasheet Link: https://www.ti.com/lit/gpn/TPS61165; Height: 1.45mm; Mouser Part Number: 595-TPS61165DBVR; Mouser Price/Stock: https://www.mouser.co.uk/ProductDetail/Texas-Instruments/TPS61165DBVR?qs=HM7Ob9npyBLl0sTgi6JQSQ%3D%3D; Arrow Part Number: TPS61165DBVR; Arrow Price/Stock: https://www.arrow.com/en/products/tps61165dbvr/texas-instruments?region=nac
footprint SOT95P280X145-6N
pins: 1 VIN, 2 CTRL, 3 SW, 4 GND, 5 COMP, 6 FB

## TPS62933DRLR
designator IC?
Integrated Circuit; Manufacturer_Name: Texas Instruments; Manufacturer_Part_Number: TPS62933DRLR; Datasheet Link: https://www.ti.com/lit/ds/symlink/tps62933.pdf?ts=1626073394234; Height: 0.6mm; Mouser Part Number: 595-TPS62933DRLR; Mouser Price/Stock: https://www.mouser.co.uk/ProductDetail/Texas-Instruments/TPS62933DRLR?qs=Rp5uXu7WBW9fv47wfQVntQ%3D%3D; Arrow Part Number: TPS62933DRLR; Arrow Price/Stock: https://www.arrow.com/en/products/tps62933drlr/texas-instruments?region=nac
footprint SOTFL50P160X60-8N
pins: 1 RT, 2 EN, 3 VIN, 4 GND, 5 SW, 6 BST, 7 SS, 8 FB

## TPS65261RHBR
designator IC?
Integrated Circuit; Manufacturer_Name: Texas Instruments; Manufacturer_Part_Number: TPS65261RHBR; Datasheet Link: http://www.ti.com/lit/gpn/tps65261; Height: 1mm; Mouser Part Number: 595-TPS65261RHBR; Mouser Price/Stock: https://www.mouser.co.uk/ProductDetail/Texas-Instruments/TPS65261RHBR?qs=wrT8kFYR779HFUFgnzaynQ%3D%3D; Arrow Part Number: TPS65261RHBR; Arrow Price/Stock: https://www.arrow.com/en/products/tps65261rhbr/texas-instruments?region=nac
footprint QFN50P500X500X100-33N-D
pins: 1 EN3, 2 PGOOD, 3 RESET, 4 MODE, 5 V7V, 6 FB2, 7 COMP2, 8 SS2, 9 BST2, 10 LX2, 11 PGND2, 12 PVIN2, 13 PVIN3, 14 PGND3, 15 LX3, 16 BST3, 17 SS3, 18 COMP3, 19 FB3, 20 ROSC, 21 AGND, 22 FB1, 23 COMP1, 24 SS1, 25 BST1, 26 LX1, 27 PGND1, 28 PVIN1, 29 VIN, 30 VDIV, 31 EN1, 32 EN2, 33 EP

## TPS72325DBVR
designator U?
IC REG LIN -2.5V 200MA SOT23-5; Manufacturer_Name: Texas Instruments; Datasheet Link: https://datasheet.datasheetarchive.com/originals/distributors/Datasheets-SFU2/DSASFU100034060.pdf; Height: 1.45mm; Manufacturer_Part_Number: TPS72325DBVR; Mouser Part Number: 595-TPS72325DBVR; Mouser Price/Stock: https://www.mouser.co.uk/ProductDetail/Texas-Instruments/TPS72325DBVR?qs=6zVL%252ByCp0mrCtYCk6%2F08lw%3D%3D; Arrow Part Number: TPS72325DBVR; Arrow Price/Stock: https://www.arrow.com/en/products/tps72325dbvr/texas-instruments?region=nac
footprint SOT95P280X145-5N
pins: 1 GND, 2 IN, 3 EN, 4 NR/FB, 5 OUT

## TPS73225DBVR
designator U?
IC REG LINEAR 2.5V 250MA SOT23-5; Manufacturer_Name: Texas Instruments; Datasheet Link: http://www.ti.com/lit/gpn/TPS732; Height: 1.45mm; Manufacturer_Part_Number: TPS73225DBVR; Mouser Part Number: 595-TPS73225DBVR; Mouser Price/Stock: https://www.mouser.co.uk/ProductDetail/Texas-Instruments/TPS73225DBVR?qs=6zVL%252ByCp0mppRt%2FlO1M%2F9w%3D%3D; Arrow Part Number: TPS73225DBVR; Arrow Price/Stock: https://www.arrow.com/en/products/tps73225dbvr/texas-instruments
footprint SOT95P280X145-5N
pins: 1 IN, 2 GND, 3 EN, 4 NR/FB, 5 OUT

## TPS74501PDRVR
designator U?
IC REG LIN POS ADJ 500MA 6-WSON; Manufacturer_Name: Texas Instruments; Manufacturer_Part_Number: TPS74501PDRVR; Datasheet Link: http://www.ti.com/lit/gpn/TPS745; Height: 0.8mm; Mouser Part Number: 595-TPS74501PDRVR; Mouser Price/Stock: https://www.mouser.com/Search/Refine.aspx?Keyword=595-TPS74501PDRVR; Arrow Part Number: TPS74501PDRVR; Arrow Price/Stock: https://www.arrow.com/en/products/tps74501pdrvr/texas-instruments
footprint SON65P200X200X80-7N
pins: 1 OUT, 2 FB, 3 GND, 4 EN, 5 PG, 6 IN, 7 EP

## TPS562201DDCR
designator IC?, comment TPS562201DDC
Integrated Circuit, DCDC, 4.5 V to 17 V, 2A; Manufacturer_Name: Texas Instruments; Manufacturer_Part_Number: TPS562201DDCR; Datasheet Link: http://www.ti.com/lit/gpn/tps562201; Height: 1.1mm; Mouser Part Number: 595-TPS562201DDCR; Mouser Price/Stock: https://www.mouser.co.uk/ProductDetail/Texas-Instruments/TPS562201DDCR?qs=8%2FmU9qzJpL8znxxpy0ZjNg%3D%3D; Arrow Part Number: TPS562201DDCR; Arrow Price/Stock: https://www.arrow.com/en/products/tps562201ddcr/texas-instruments?region=nac
footprint SOT95P280X110-6N
pins: 1 GND, 2 SW, 3 VIN, 4 VFB, 5 EN, 6 VBST

## TPS563201DDCT
designator PS?
Power Supply; Manufacturer_Name: Texas Instruments; Manufacturer_Part_Number: TPS563201DDCT; Datasheet Link: http://www.ti.com/general/docs/lit/getliterature.tsp?genericPartNumber=tps563201&fileType=pdf; Height: 1.1mm; Mouser Part Number: 595-TPS563201DDCT; Mouser Price/Stock: https://www.mouser.co.uk/ProductDetail/Texas-Instruments/TPS563201DDCT?qs=G55MHhPmvtJpxrlgluYVKA%3D%3D; Arrow Part Number: TPS563201DDCT; Arrow Price/Stock: https://www.arrow.com/en/products/tps563201ddct/texas-instruments?utm_currency=USD&region=nac
footprint SOT95P280X110-6N
pins: 1 GND, 2 SW, 3 VIN, 4 VFB, 5 EN, 6 VBST

## TPS565208DDCR
designator PS?
Power Supply; Manufacturer_Name: Texas Instruments; Manufacturer_Part_Number: TPS565208DDCR; Datasheet Link: http://www.ti.com/lit/gpn/tps565208; Height: 1.1mm; Mouser Part Number: 595-TPS565208DDCR; Mouser Price/Stock: https://www.mouser.co.uk/ProductDetail/Texas-Instruments/TPS565208DDCR?qs=YCa%2FAAYMW00vylGjeU1iOg%3D%3D; Arrow Part Number: TPS565208DDCR; Arrow Price/Stock: https://www.arrow.com/en/products/tps565208ddcr/texas-instruments?region=nac
footprint SOT95P280X110-6N
pins: 1 GND (power), 2 SW (out), 3 VIN (power), 4 VFB (in), 5 EN (in), 6 VBST (out)

## TPS629206DRLR
designator IC?
Integrated Circuit; Manufacturer_Name: Texas Instruments; Manufacturer_Part_Number: TPS629206QDRLRQ1; Datasheet Link: https://www.ti.com/lit/gpn/TPS629206-Q1; Height: 0.6mm; Mouser Part Number: 595-TPS629206QDRLRQ1; Mouser Price/Stock: https://www.mouser.co.uk/ProductDetail/Texas-Instruments/TPS629206QDRLRQ1?qs=Znm5pLBrcAKSjTz%252BzqwnCQ%3D%3D; Arrow Part Number: TPS629206QDRLRQ1; Arrow Price/Stock: https://www.arrow.com/en/products/tps629206qdrlrq1/texas-instruments?region=nac
footprint SOTFL50P160X60-8N
pins: 1 FB/VSET, 2 PG, 3 VOS, 4 SW, 5 GND, 6 VIN, 7 EN, 8 MODE/S-CONF

## TRGB-L-SS-105DM
designator K?
Relay, 1NO, 277VAC/5A
footprint TRGB-L-SS-124DM
pins: 1 COIL_1, 2 NC, 3 NO, 4 COIL_2

## TRJE101A33NL
designator J?
Magnetic Jack
footprint TRJE101A33NL (Modular Jack)
pins: 1, 2, 3, 4, 5, 6, 7, 8, 9 P9, 10 P10, 11 P11, 12 P12, S SHLD
text: RED; GRN

## TS3A24159DGSR
designator IC?
Integrated Circuit; Manufacturer_Name: Texas Instruments; Manufacturer_Part_Number: TS3A24159DGSR; Datasheet Link: https://datasheet.datasheetarchive.com/originals/distributors/Datasheets-DGA16/948601.pdf; Height: 1.1mm; Mouser Part Number: 595-TS3A24159DGSR; Mouser Price/Stock: https://www.mouser.co.uk/ProductDetail/Texas-Instruments/TS3A24159DGSR?qs=0OHPnBYoB%2Flfi%2F6h%252BEz0kA%3D%3D; Arrow Part Number: TS3A24159DGSR; Arrow Price/Stock: https://www.arrow.com/en/products/ts3a24159dgsr/texas-instruments?utm_currency=USD&region=nac
footprint SOP50P490X110-10N
pins: 1 V+, 2 NO1, 3 COM1, 4 IN1, 5 NC1, 6 GND, 7 NC2, 8 IN2, 9 COM2, 10 NO2

## TSW-102-05-G-D
designator J?
Connector; Manufacturer_Name: SAMTEC; Manufacturer_Part_Number: TSW-102-05-G-D; Datasheet Link: http://suddendocs.samtec.com/catalog_english/tsw_th.pdf; Height: 5.21mm; Mouser Part Number: 200-TSW10205GD; Mouser Price/Stock: https://www.mouser.co.uk/ProductDetail/Samtec/TSW-102-05-G-D?qs=rU5fayqh%252BE0ksWKDIngWOA%3D%3D; Arrow Part Number: TSW-102-05-G-D; Arrow Price/Stock: https://www.arrow.com/en/products/tsw-102-05-g-d/samtec
footprint HDRV4W64P254_2X2_508X508X521P
pins: 1, 2, 3, 4

## TT26-100A-1:2000
designator T?
Transformer Current; Manufacturer_Name: Up Electronic; Manufacturer_Part_Number: DL-CT1005A; Datasheet Link: http://www.eltranstech.ru/products/izmeritelnye-transformatory-i-datchiki-toka/transformatory-serii-tt26/tt26-100a-xx-z-0-1-2000/; Height: 25mm
footprint TT
pins: 3 NC_1, S1, S2

## TT_LOGO
designator LOGO?  (no BOM)
footprint TT_LOGO
footprint TT_LOGO_SMALL
text: TYRETECH; LOGO

## TVRB1212YMD-10WR3
designator PS?
Power Supply, 12V (9-18V) -> 12V, 833mA, 10W; Manufacturer_Name: Mornsun; Manufacturer_Part_Number: URB1D15LD-20WR3; Datasheet Link: https://www.mornsun-power.com/html/pdf/URB1D15LD-20WR3.html; Height: 11.8
footprint PDQE30
pins: 1 CTRL, 2 -VIN, 3 +VIN, 4 +VOUT, 5 TRIM, 6 -VOUT

## TXB0108EPWR
designator IC?
Integrated Circuit; Manufacturer_Name: Texas Instruments; Manufacturer_Part_Number: TXB0108EPWR; Datasheet Link: http://www.ti.com/lit/ds/symlink/txb0108.pdf; Height: 1.2mm
footprint SOP65P640X120-20N
pins: 1 A1, 2 VCCA, 3 A2, 4 A3, 5 A4, 6 A5, 7 A6, 8 A7, 9 A8, 10 OE, 11 GND, 12 B8, 13 B7, 14 B6, 15 B5, 16 B4, 17 B3, 18 B2, 19 VCCB, 20 B1

## TXS0102DCTR
designator IC?
Integrated Circuit; Manufacturer_Name: Texas Instruments; Manufacturer_Part_Number: TXS0102DCTR; Datasheet Link: http://www.ti.com/lit/gpn/txs0102; Height: 1.3mm; Mouser Part Number: 595-TXS0102DCTR; Mouser Price/Stock: https://www.mouser.co.uk/ProductDetail/Texas-Instruments/TXS0102DCTR?qs=BWabSxB1G9cell1mrpKPvA%3D%3D; Arrow Part Number: TXS0102DCTR; Arrow Price/Stock: https://www.arrow.com/en/products/txs0102dctr/texas-instruments?region=nac
footprint SOP65P400X130-8N
pins: 1 B2 (io), 2 GND (power), 3 VCCA (power), 4 A2 (io), 5 A1 (io), 6 OE (in), 7 VCCB (power), 8 B1 (io)

## TXS0104EPWR
designator IC?
Integrated Circuit; Manufacturer_Name: Texas Instruments; Manufacturer_Part_Number: TXS0104EPWR; Datasheet Link: http://www.ti.com/lit/ds/symlink/txs0104e.pdf; Height: 1.2mm; Mouser Part Number: 595-TXS0104EPWR; Mouser Price/Stock: https://www.mouser.co.uk/ProductDetail/Texas-Instruments/TXS0104EPWR?qs=7kv20MEVUlglsv2MH6ZndA%3D%3D; Arrow Part Number: TXS0104EPWR; Arrow Price/Stock: https://www.arrow.com/en/products/txs0104epwr/texas-instruments.html?utm_currency=USD&region=nac
footprint SOP65P640X120-14N
pins: 1 VCCA, 2 A1, 3 A2, 4 A3, 5 A4, 6 NC_1, 7 GND, 8 OE, 9 NC_2, 10 B4, 11 B3, 12 B2, 13 B1, 14 VCCB

## TXS0108EPWR
designator IC?
Integrated Circuit; Manufacturer_Name: Texas Instruments; Manufacturer_Part_Number: TXS0108EPWR; Datasheet Link: http://www.ti.com/lit/ds/symlink/txs0108e.pdf; Height: 1.2mm; Mouser Part Number: 595-TXS0108EPWR; Mouser Price/Stock: https://www.mouser.co.uk/ProductDetail/Texas-Instruments/TXS0108EPWR?qs=IUbkBnfnSQLgiWtCbWtYOw%3D%3D; Arrow Part Number: TXS0108EPWR; Arrow Price/Stock: https://www.arrow.com/en/products/txs0108epwr/texas-instruments?utm_currency=USD&region=nac
footprint SOP65P640X120-20N
pins: 1 A1, 2 VCCA, 3 A2, 4 A3, 5 A4, 6 A5, 7 A6, 8 A7, 9 A8, 10 OE, 11 GND, 12 B8, 13 B7, 14 B6, 15 B5, 16 B4, 17 B3, 18 B2, 19 VCCB, 20 B1

## TYPE-C-31-M-12
designator J?
Connector, USB, TypeC; Manufacturer_Name: Korean Hroparts Elec; Manufacturer_Part_Number: TYPE-C-31-M-12; Datasheet Link: https://www.lcsc.com/datasheet/lcsc_datasheet_2410010003_Korean-Hroparts-Elec-TYPE-C-31-M-12_C165948.pdf; Height: 3.21mm
footprint TYPE-C-31-M-12
pins: A1/B12 GND_1, A4/B9 VBUS_1, A5 CC1, A6 DP1, A7 DN1, A8 SBU1, A9/B4 VBUS_2, A12/B1 GND_2, B5 CC2, B6 DP2, B7 DN2, B8 SBU2, MP1, MP2, MP3, MP4

## TYPEC-304S-ACP16
designator J?
Connector, USB, TypeC; Manufacturer_Name: XUNPU; Manufacturer_Part_Number: TYPEC-304S-ACP16; Datasheet Link: https://datasheet.lcsc.com/szlcsc/2008152133_XUNPU-TYPEC-304S-ACP16_C720630.pdf; Height: 3.21mm
footprint TYPEC304SACP16
pins: A1 GND_1, A4 VBUS_1, A5 CC1, A6 DP1, A7 DN1, A8 SBU1, A9 VBUS_2, A12 GND_2, B1 GND_3, B4 VBUS_3, B5 CC2, B6 DP2, B7 DN2, B8 SBU2, B9 VBUS_4, B12 GND_4, MP1, MP2, MP3, MP4

## TZT_MCP2515
designator MOD?
CAN Bus Driver MODULE, PBS-7 + 2xPBS-2; Manufacturer_Name: TZT; Manufacturer_Part_Number: TZT_MCP2515; Part Number: PBS-7 + 2xPBS-2
footprint TZT_MCP2515_MOD (Footprint not found)
pins: 1 INT, 2 SCK, 3 SI, 4 SO, 5 CS, 6 GND, 7 VCC, 8 TERM2, 9 TERM1, 10 CAN_L, 11 CAN_H

## U.FL-R-SMT-1
designator J?
Connector, uFL; Manufacturer_Name: Hirose; Manufacturer_Part_Number: U.FL-R-SMT-1; Height: 1.5
footprint U.FL-R-SMT-1 (U.FL connector)
pins: 1 SIG, 2 GND, 3 GND

## UCD2A101MNQ1MS
designator C?
Capacitor Polarised; Manufacturer_Name: Nichicon; Manufacturer_Part_Number: UCD2A101MNQ1MS; Datasheet Link: https://www.nichicon.co.jp/english/products/pdfs/e-ucd.pdf; Height: 17.5mm; Mouser Part Number: 647-UCD2A101MNQ1MS; Mouser Price/Stock: https://www.mouser.co.uk/ProductDetail/Nichicon/UCD2A101MNQ1MS?qs=c0uEScvPYN044nhIlntWOw%3D%3D
footprint CAPAE1710X1750N
pins: 1 +, 2 -

## ULN2003ADR2G
designator IC?
Integrated Circuit; Manufacturer_Name: ON Semiconductor; Manufacturer_Part_Number: ULN2003ADR2G; Datasheet Link: http://www.onsemi.com/pub/Collateral/ULN2003A-D.PDF; Height: 1.75mm; Mouser Part Number: 863-ULN2003ADR2G; Mouser Price/Stock: https://www.mouser.co.uk/ProductDetail/onsemi/ULN2003ADR2G?qs=t2BMfLoP1KRgd83C6tnDAg%3D%3D; Arrow Part Number: ULN2003ADR2G; Arrow Price/Stock: https://www.arrow.com/en/products/uln2003adr2g/on-semiconductor?region=nac
footprint SOIC127P600X175-16N
pins: 1 I1, 2 I2, 3 I3, 4 I4, 5 I5, 6 I6, 7 I7, 8 GND, 9 COMMON, 10 O7, 11 O6, 12 O5, 13 O4, 14 O3, 15 O2, 16 O1

## ULN2803ADW
designator IC?
Integrated Circuit; Manufacturer_Name: Texas Instruments; Manufacturer_Part_Number: ULN2803ADW; Datasheet Link: https://datasheet.datasheetarchive.com/originals/distributors/Datasheets-37/DSA-728386.pdf; Height: 2.65mm; Mouser Part Number: 595-ULN2803ADW; Mouser Price/Stock: https://www.mouser.co.uk/ProductDetail/Texas-Instruments/ULN2803ADW?qs=pbofycSuseMKwJOYHHUaYQ%3D%3D; Arrow Part Number: ULN2803ADW; Arrow Price/Stock: https://www.arrow.com/en/products/uln2803adw/texas-instruments?region=nac; LCSC Part #: C2758014
footprint SOIC127P1030X265-18N
pins: 1 1B, 2 2B, 3 3B, 4 4B, 5 5B, 6 6B, 7 7B, 8 8B, 9 GND, 10 COM, 11 8C, 12 7C, 13 6C, 14 5C, 15 4C, 16 3C, 17 2C, 18 1C

## ULN2803ADWRG4
designator T?
Transformer; Manufacturer_Name: Texas Instruments; Manufacturer_Part_Number: ULN2803ADWRG4; Datasheet Link: http://www.ti.com/lit/ds/symlink/uln2803a.pdf; Height: 2.65mm; Mouser Part Number: 595-ULN2803ADWRG4; Mouser Price/Stock: https://www.mouser.co.uk/ProductDetail/Texas-Instruments/ULN2803ADWRG4?qs=pbofycSusePr3zMQZfJ%2FRA%3D%3D; Arrow Part Number: ULN2803ADWRG4; Arrow Price/Stock: https://www.arrow.com/en/products/uln2803adwrg4/texas-instruments
footprint SOIC127P1030X265-18N
pins: 1 1B, 2 2B, 3 3B, 4 4B, 5 5B, 6 6B, 7 7B, 8 8B, 9 GND, 10 COM, 11 8C, 12 7C, 13 6C, 14 5C, 15 4C, 16 3C, 17 2C, 18 1C

## URB1D15LD-20WR3
designator PS?
Power Supply, 110V (40-160V) -> 15V, 833mA, 20W; Manufacturer_Name: Mornsun; Datasheet Link: https://www.mornsun-power.com/html/pdf/URB1D15LD-20WR3.html; Height: 11.8; Manufacturer_Part_Number: URB1D15LD-20WR3
footprint URB1D15LD
pins: 1 CTRL, 2 -VIN, 3 +VIN, 4 +VOUT, 5 -VOUT, 6 TRIM

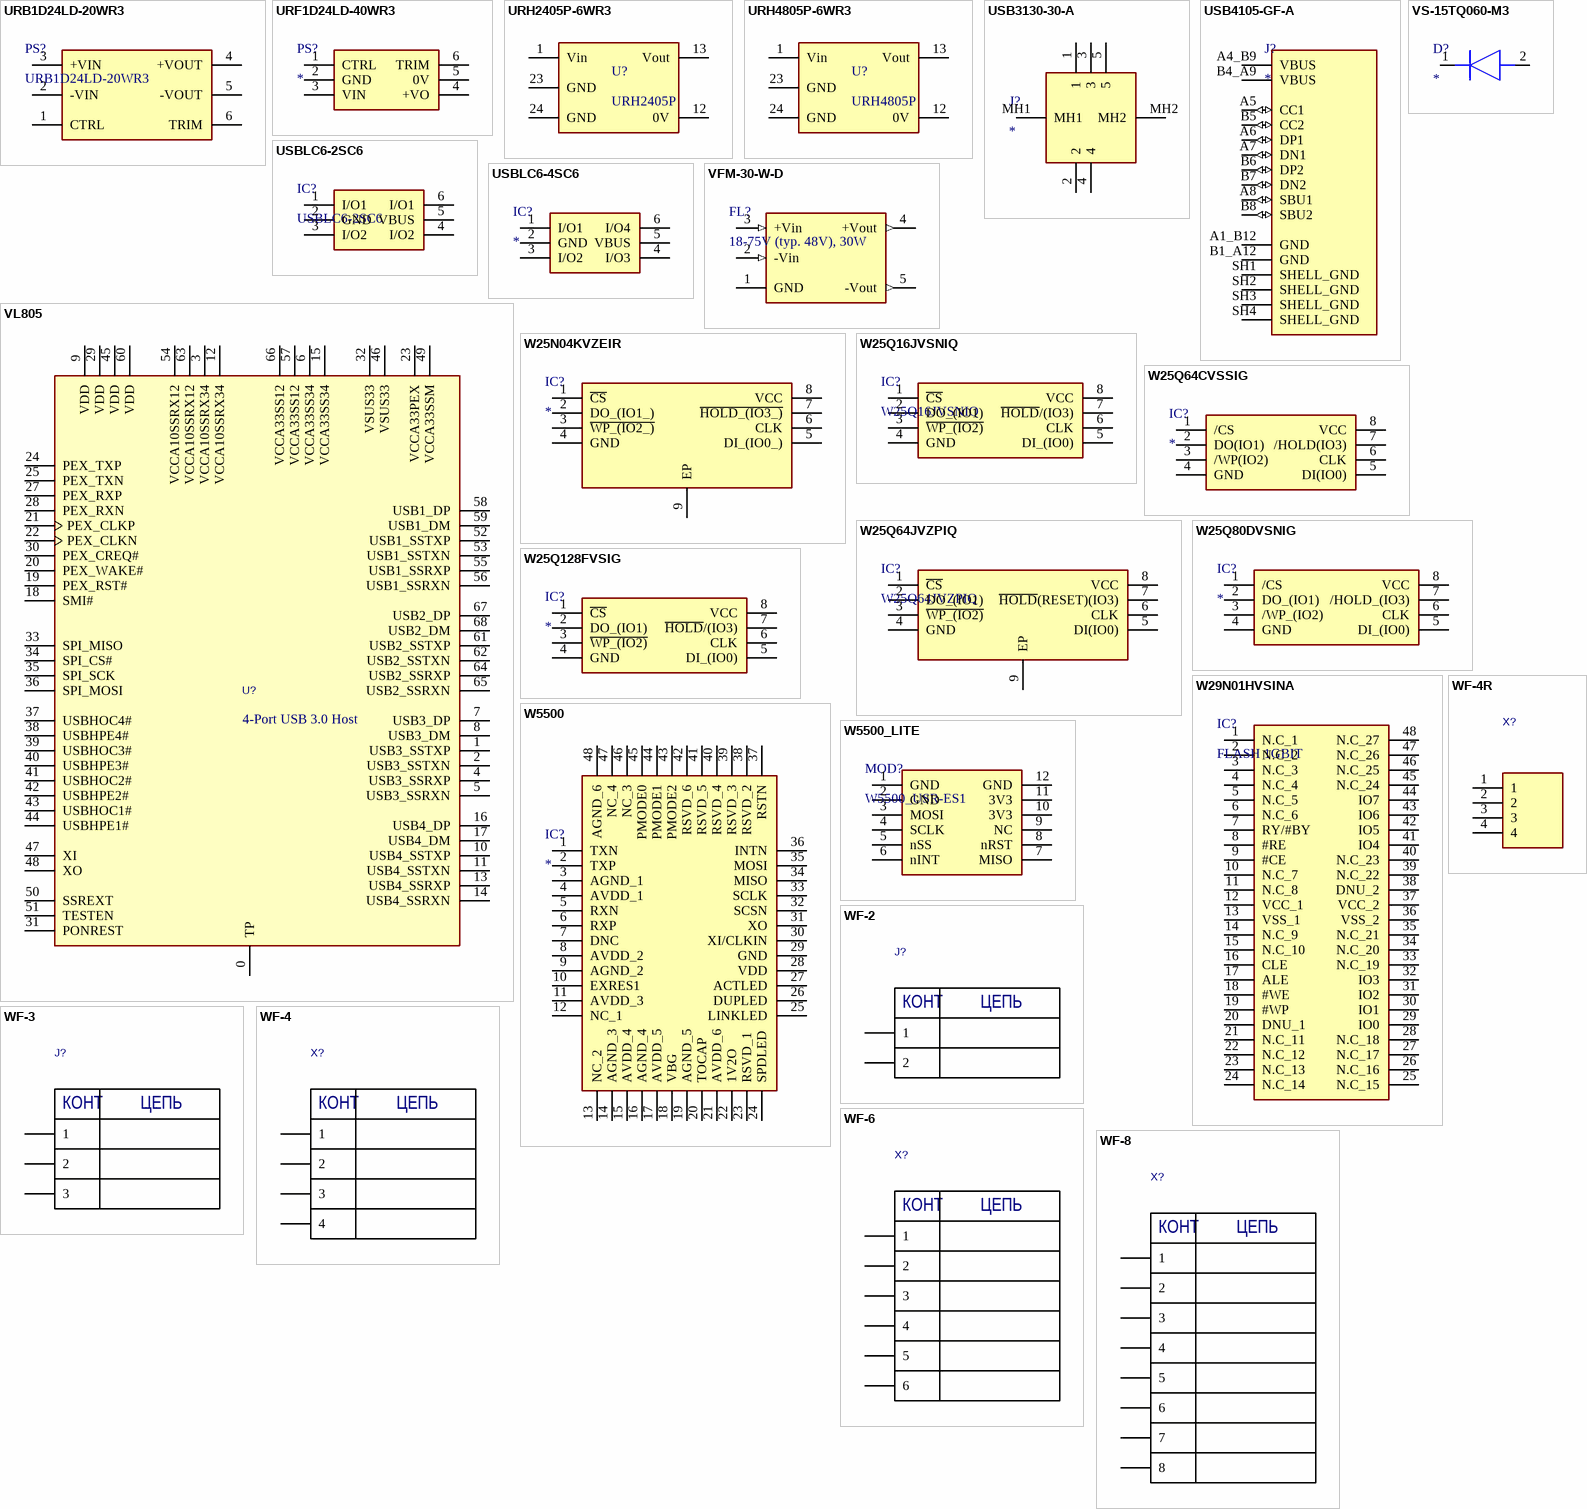
[diagram p48: symbols URB1D24LD-20WR3 to WF-8]

## URB1D24LD-20WR3
designator PS?
Power Supply, 110V (40-160V) -> 24V, 833mA, 20W; Manufacturer_Name: Mornsun; Manufacturer_Part_Number: URB1D15LD-20WR3; Datasheet Link: https://www.mornsun-power.com/html/pdf/URB1D15LD-20WR3.html; Height: 11.8
footprint URB1D15LD
pins: 1 CTRL, 2 -VIN, 3 +VIN, 4 +VOUT, 5 -VOUT, 6 TRIM

## URF1D24LD-40WR3
designator PS?
Power Supply; Manufacturer_Name: Mornsun Power; Manufacturer_Part_Number: URF1D24LD-40WR3; Datasheet Link: https://www.mornsun-power.com/html/pdf/URF1D24LD-40WR3.html; Height: 12.3mm
footprint URF1D24LD40WR3
pins: 1 CTRL, 2 GND, 3 VIN, 4 +VO, 5 0V, 6 TRIM

## URH2405P-6WR3
designator U?, comment URH2405P
DC-DC converter, 6W isolated, DIP
footprint URH_P-6WR3 (MORNSUN DCDC)
pins: 1 Vin, 12 0V, 13 Vout, 23 GND, 24 GND

## URH4805P-6WR3
designator U?, comment URH4805P
DC-DC converter, 6W isolated, DIP
footprint URH_P-6WR3 (MORNSUN DCDC)
pins: 1 Vin, 12 0V, 13 Vout, 23 GND, 24 GND

## USB3130-30-A
designator J?
Connector; Manufacturer_Name: GCT (GLOBAL CONNECTOR TECHNOLOGY); Manufacturer_Part_Number: USB3130-30-A; Detailed Description: USB - micro B USB 2.0 Receptacle Connector 5 Position Through Hole; Datasheet Link: https://gct.co/connector/usb3130; Height: 5.6mm; Mouser Part Number: 640-USB3130-30-A; Mouser Price/Stock: https://www.mouser.co.uk/ProductDetail/GCT/USB3130-30-A?qs=KUoIvG%2F9IlZPehF28lb1hg%3D%3D
footprint USB313030A
pins: 1, 2, 3, 4, 5, MH1, MH2

## USB4105-GF-A
designator J?
Connector, USB Type C; Manufacturer: GCT; Part Number: USB4105-GF-A
footprint GCT_USB4105-GF-A
pins: A1_B12 GND (power), A4_B9 VBUS (power), A5 CC1 (io), A6 DP1 (io), A7 DN1 (io), A8 SBU1 (io), B1_A12 GND (power), B4_A9 VBUS (power), B5 CC2 (io), B6 DP2 (io), B7 DN2 (io), B8 SBU2 (io), SH1 SHELL_GND (power), SH2 SHELL_GND (power), SH3 SHELL_GND (power), SH4 SHELL_GND (power)

## USBLC6-2SC6
designator IC?
IC 2 LINE TVS ARRAY; Manufacturer_Name: STMicroelectronics; Datasheet Link: http://www.st.com/st-web-ui/static/active/en/resource/technical/document/datasheet/CD00050750.pdf; Height: 1.45mm; Manufacturer_Part_Number: USBLC6-2SC6; Mouser Part Number: 511-USBLC6-2SC6; Mouser Price/Stock: https://www.mouser.co.uk/ProductDetail/STMicroelectronics/USBLC6-2SC6?qs=po45yt2pPpu%2FhNIlwQdTlg%3D%3D; Arrow Part Number: USBLC6-2SC6; Arrow Price/Stock: https://www.arrow.com/en/products/usblc6-2sc6/stmicroelectronics?region=nac
footprint SOT95P280X145-6N
pins: 1 I/O1, 2 GND, 3 I/O2, 4 I/O2, 5 VBUS, 6 I/O1

## USBLC6-4SC6
designator IC?
Integrated Circuit; Manufacturer_Name: STMicroelectronics; Manufacturer_Part_Number: USBLC6-4SC6; Datasheet Link: http://www.st.com/st-web-ui/static/active/en/resource/technical/document/datasheet/CD00047494.pdf; Height: 1.45mm; Mouser Part Number: 511-USBLC6-4SC6; Mouser Price/Stock: https://www.mouser.co.uk/ProductDetail/STMicroelectronics/USBLC6-4SC6?qs=k9dH%2Fx4GHJCNdehb8zInZg%3D%3D; Arrow Part Number: USBLC6-4SC6; Arrow Price/Stock: https://www.arrow.com/en/products/usblc6-4sc6/stmicroelectronics?region=nac
footprint SOT95P280X145-6N
pins: 1 I/O1, 2 GND, 3 I/O2, 4 I/O3, 5 VBUS, 6 I/O4

## VFM-30-W-D
designator FL?, comment 18-75V (typ. 48V), 30W
DC LINE POWER FILTER, 18-75V (typ. 48V), 30W; Manufacturer_Name: CUI Inc.; Manufacturer_Part_Number: VFM-30-W-D; Datasheet Link: https://www.cui.com/product/resource/vfm-30-w.pdf; Height: 19mm; Vin: 18-75V (typ. 48V); Power: 30W
footprint VFM-30-W-D (DC EMI FILTER)
pins: 1 GND, 2 -Vin (in), 3 +Vin (in), 4 +Vout (out), 5 -Vout (out)

## VL805
designator U?, comment 4-Port USB 3.0 Host
VIA Lab’s VL805  4-Port is a USB 3.0 Host controller, which enables a PCI Express
footprint QFN40P800X800X90_HS-69N (QFN, 68-Leads, Body 8,00x8,00mm, Pitch 0,40mm, Thermal Pad 6,20x6,20mm, IPC Medium Density)
pins: 0 TP, 1 USB3_SSTXP, 2 USB3_SSTXN, 3 VCCA10SSRX34, 4 USB3_SSRXP, 5 USB3_SSRXN, 6 VCCA33SS34, 7 USB3_DP, 8 USB3_DM, 9 VDD, 10 USB4_SSTXP, 11 USB4_SSTXN, 12 VCCA10SSRX34, 13 USB4_SSRXP, 14 USB4_SSRXN, 15 VCCA33SS34, 16 USB4_DP, 17 USB4_DM, 18 SMI#, 19 PEX_RST#, 20 PEX_WAKE#, 21 PEX_CLKP, 22 PEX_CLKN, 23 VCCA33PEX, 24 PEX_TXP, 25 PEX_TXN, 26 NC hidden, 27 PEX_RXP, 28 PEX_RXN, 29 VDD, 30 PEX_CREQ#, 31 PONREST, 32 VSUS33, 33 SPI_MISO, 34 SPI_CS#, 35 SPI_SCK, 36 SPI_MOSI, 37 USBHOC4#, 38 USBHPE4#, 39 USBHOC3#, 40 USBHPE3#, 41 USBHOC2#, 42 USBHPE2#, 43 USBHOC1#, 44 USBHPE1#, 45 VDD, 46 VSUS33, 47 XI, 48 XO, 49 VCCA33SSM, 50 SSREXT, 51 TESTEN, 52 USB1_SSTXP, 53 USB1_SSTXN, 54 VCCA10SSRX12, 55 USB1_SSRXP, 56 USB1_SSRXN, 57 VCCA33SS12, 58 USB1_DP, 59 USB1_DM, 60 VDD, 61 USB2_SSTXP, 62 USB2_SSTXN, 63 VCCA10SSRX12, 64 USB2_SSRXP, 65 USB2_SSRXN, 66 VCCA33SS12, 67 USB2_DP, 68 USB2_DM

## VS-15TQ060-M3
designator D?
Diode; Manufacturer_Name: Vishay; Manufacturer_Part_Number: VS-15TQ060-M3; Datasheet Link: https://componentsearchengine.com/Datasheets/1/VS-15TQ060-M3.pdf; Height: 15.35mm; Mouser Part Number: 78-VS-15TQ060-M3; Mouser Price/Stock: https://www.mouser.co.uk/ProductDetail/Vishay-Semiconductors/VS-15TQ060-M3?qs=MLItCLRbWsymVmu8JZR%252BuA%3D%3D; Arrow Part Number: VS-15TQ060-M3; Arrow Price/Stock: https://www.arrow.com/en/products/vs-15tq060-m3/vishay?region=nac
footprint VS15TQ060M3
pins: 1 K, 2 A

## W25N04KVZEIR
designator IC?
Integrated Circuit; Manufacturer_Name: Winbond; Manufacturer_Part_Number: W25N04KVZEIR; Datasheet Link: https://www.winbond.com/resource-files/W25N04KVxxIRU_Datasheet_20221209_RevD.pdf; Height: 0.8mm; Mouser Part Number: 454-W25N04KVZEIR; Mouser Price/Stock: https://www.mouser.co.uk/ProductDetail/Winbond/W25N04KVZEIR?qs=YwPsRIUVAOdveyibmg1m8Q%3D%3D
footprint SON127P800X600X80-9N-D
pins: 1 ~{CS}, 2 DO_(IO1_), 3 ~{WP_(IO2_)}, 4 GND, 5 DI_(IO0_), 6 CLK, 7 ~{HOLD_(IO3_)}, 8 VCC, 9 EP

## W25Q16JVSNIQ
designator IC?
Integrated Circuit; Manufacturer_Name: Winbond; Datasheet Link: https://www.winbond.com/hq/search-resource-file.jsp?partNo=W25Q16JVSNIM&type=datasheet; Height: 1.75mm; Manufacturer_Part_Number: W25Q16JVSNIQ; Mouser Part Number: W25Q16JVSNIQ; Mouser Price/Stock: https://www.mouser.co.uk/ProductDetail/Winbond/W25Q16JVSNIM?qs=qSfuJ%252Bfl%2Fd6RPTIAb6Crug%3D%3D; Arrow Part Number: W25Q16JVSNIM; Arrow Price/Stock: https://www.arrow.com/en/products/w25q16jvsnim/winbond-electronics?region=nac
footprint SOIC127P600X175-8N
pins: 1 ~{CS}, 2 DO_(IO1), 3 ~{WP_(IO2)}, 4 GND, 5 DI_(IO0), 6 CLK, 7 ~{HOLD}/(IO3), 8 VCC

## W25Q64CVSSIG
designator IC?
Integrated Circuit; Manufacturer_Name: Winbond; Manufacturer_Part_Number: W25Q64CVSSIG; Datasheet Link: https://datasheet.datasheetarchive.com/originals/distributors/Datasheets-DGA23/1524497.pdf; Height: 2.16mm; Mouser Part Number: N/A; Mouser Price/Stock: https://www.mouser.com/Search/Refine.aspx?Keyword=N%2FA
footprint SOIC127P790X216-8N
pins: 1 /CS, 2 DO(IO1), 3 /WP(IO2), 4 GND, 5 DI(IO0), 6 CLK, 7 /HOLD(IO3), 8 VCC

## W25Q64JVZPIQ
designator IC?
IC FLASH 64MBIT SPI/QUAD 8WSON; Manufacturer_Name: Winbond; Manufacturer_Part_Number: W25Q64JVZPIQ TR; Datasheet Link: https://www.winbond.com/resource-files/w25q64jv%20revj%2003272018%20plus.pdf; Height: 0.8mm; Mouser Part Number: 454-W25Q64JVZPIQTR; Mouser Price/Stock: https://www.mouser.co.uk/ProductDetail/Winbond/W25Q64JVZPIQ-TR?qs=qSfuJ%252Bfl%2Fd4DaSgaekTOWw%3D%3D; Arrow Part Number: W25Q64JVZPIQ TR; Arrow Price/Stock: https://www.arrow.com/en/products/w25q64jvzpiqtr/winbond-electronics?utm_currency=USD&region=nac
footprint SON127P600X500X80-9N-D
pins: 1 ~{CS}, 2 DO_(IO1), 3 ~{WP_(IO2)}, 4 GND, 5 DI(IO0), 6 CLK, 7 ~{HOLD}(RESET)(IO3), 8 VCC, 9 EP

## W25Q80DVSNIG
designator IC?
Integrated Circuit; Manufacturer_Name: Winbond; Manufacturer_Part_Number: W25Q80DVSNIG; Datasheet Link: https://www.winbond.com/resource-files/w25q80dv_revg_07212015.pdf; Height: 1.75mm; Mouser Part Number: 454-W25Q80DVSNIG; Mouser Price/Stock: https://www.mouser.co.uk/ProductDetail/Winbond/W25Q80DVSNIG?qs=qSfuJ%252Bfl%2Fd4U6qBd6DZUig%3D%3D; Arrow Part Number: W25Q80DVSNIG; Arrow Price/Stock: https://www.arrow.com/en/products/w25q80dvsnig/winbond-electronics
footprint SOIC127P600X175-8N
pins: 1 /CS, 2 DO_(IO1), 3 /WP_(IO2), 4 GND, 5 DI_(IO0), 6 CLK, 7 /HOLD_(IO3), 8 VCC